# Altium footprint library 3pin.PcbLib: 1 footprints
Each footprint in its own frame and in the unit in brackets; x right, y up, seen from the top. Pads: shape width x height; smd on the part's side, far side on the other; paste and mask are expansions set on the pad; w line width, h text height; cw(c..) or ccw(c..) is an arc to the next point about the centre after c.
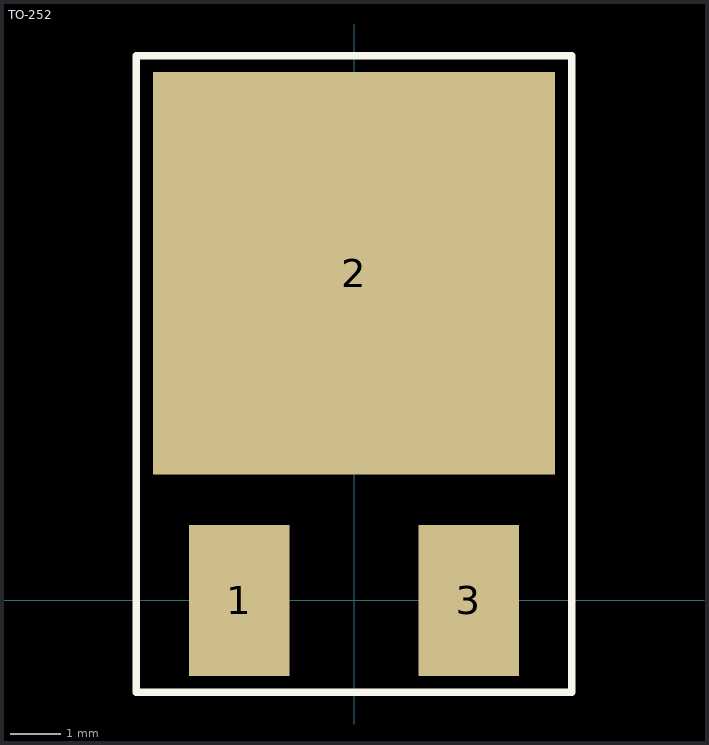
[diagram p0: the footprint, top view; thin cyan lines are the x and y axes]

## TO-252 [mm]
height 3
pads (3):
  rect 2x3 smd: 1(-2.28,0) 3(2.28,0)
  rect 8x8 smd: 2(0,6.5)
Top Overlay:
  lines w0.15: -4.325,-1.825 4.325,-1.825 4.325,10.825 -4.325,10.825 -4.325,-1.825
3D body "CircuitWorks-TO-252.step": height 2.3, standoff 0, extent -3.29,0.027 3.29,9.727